# Altium schematic symbol library IRDA TCVR.Schlib: 1 symbol
Pins are listed as number, name and electrical type; pins without a type are passive.

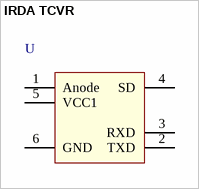
[diagram p0: symbol IRDA TCVR]

## IRDA TCVR
designator U
pins: 1 Anode, 2 TXD, 3 RXD, 4 SD, 5 VCC1, 6 GND